# Altium schematic symbol library SCH - DRIVER - LED - TI TPS92010_D_8.SchLib: 1 symbol
Pins are listed as number, name and electrical type; pins without a type are passive.

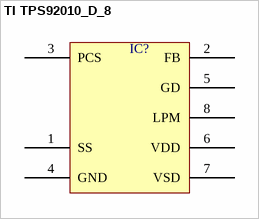
[diagram p0: symbol TI TPS92010_D_8]

## TI TPS92010_D_8
designator IC?  (value not drawn)
pins: 1 SS, 2 FB, 3 PCS, 4 GND, 5 GD, 6 VDD, 7 VSD, 8 LPM